# EAGLE library part ESPRESSO-LITE-V2 (library cmmc_lbr1)
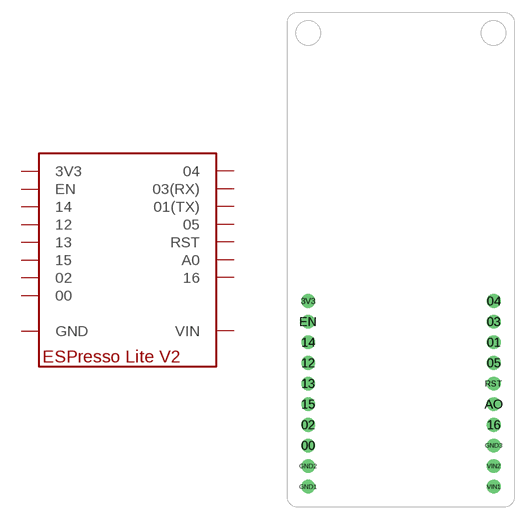
[diagram p6: symbol with the pads of ESPRESSO-LITE-V2; footprint ESPRESSO-LITE-V2]

Designator prefix -

## ESPRESSO-LITE-V2  [ESPRESSO-LITE-V2]
00  00
01  01(TX)
02  02
03  03(RX)
3V3  3V3
04  04
05  05
12  12
13  13
14  14
15  15
16  16
AO  A0
EN  EN
GND1  GND
GND2  GND
GND3  GND
RST  RST
VIN1  VIN
VIN2  VIN

## Footprint ESPRESSO-LITE-V2 (pad centres in mm)
drill 0.9 pad 1.676: 00 2.54,7.62; 01 25.4,20.32; 02 2.54,10.16; 03 25.4,22.86; 3V3 2.54,25.4; 04 25.4,25.4; 05 25.4,17.78; 12 2.54,17.78; 13 2.54,15.24; 14 2.54,20.32; 15 2.54,12.7; 16 25.4,10.16; AO 25.4,12.7; EN 2.54,22.86; GND1 2.54,2.54; GND2 2.54,5.08; GND3 25.4,7.62; RST 25.4,15.24; VIN1 25.4,2.54; VIN2 25.4,5.08